# EAGLE library part DIR9001 (library audio)
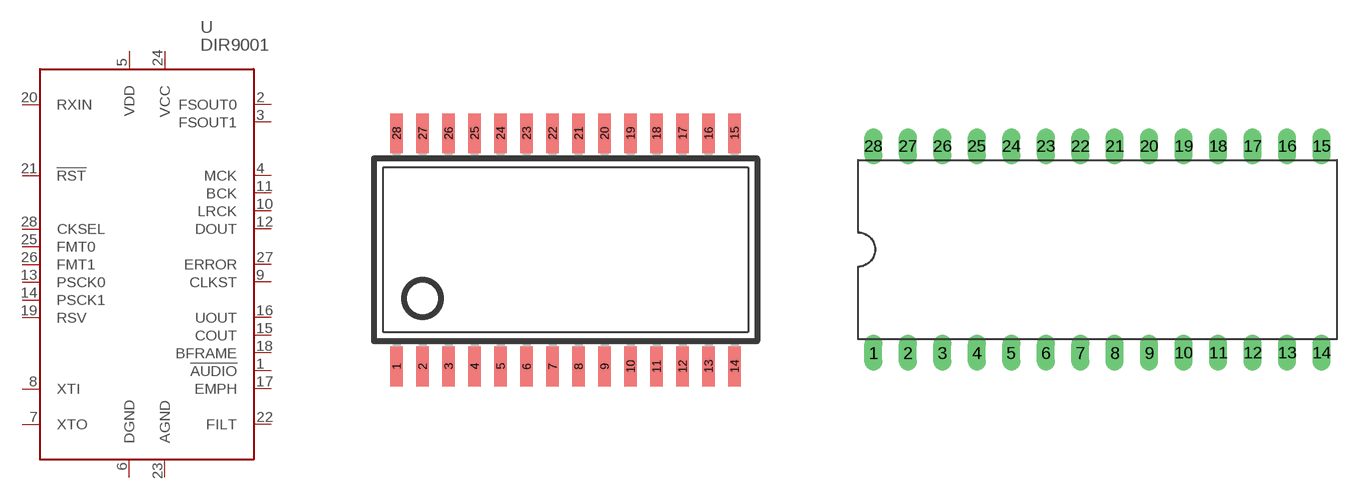
[diagram p0: symbol with the pads of TSSOP28; footprints TSSOP28, DIP28-6]

Designator prefix U

## DIR9001TSSOP  [TSSOP28]
1  !AUDIO
2  FSOUT0
3  FSOUT1
4  MCK
5  VDD  pwr
6  DGND  pwr
7  XTO  out
8  XTI  in
9  CLKST
10  LRCK
11  BCK
12  DOUT
13  PSCK0  in
14  PSCK1  in
15  COUT
16  UOUT
17  EMPH
18  BFRAME
19  RSV  in
20  RXIN  in
21  !RST  in
22  FILT
23  AGND  pwr
24  VCC  pwr
25  FMT0  in
26  FMT1  in
27  ERROR
28  CKSEL  in

## DIR9001DIP  [DIP28-6]
Pads as for TSSOP28

## Footprint TSSOP28 (pad centres in mm)
smd 0.305 x 0.991: 1 -4.225,-2.918; 2 -3.575,-2.918; 3 -2.925,-2.918; 4 -2.275,-2.918; 5 -1.625,-2.918; 6 -0.975,-2.918; 7 -0.325,-2.918; 8 0.325,-2.918; 9 0.975,-2.918; 10 1.625,-2.918; 11 2.275,-2.918; 12 2.925,-2.918; 13 3.575,-2.918; 14 4.225,-2.918; 15 4.225,2.918; 16 3.575,2.918; 17 2.925,2.918; 18 2.275,2.918; 19 1.625,2.918; 20 0.975,2.918; 21 0.325,2.918; 22 -0.325,2.918; 23 -0.975,2.918; 24 -1.625,2.918; 25 -2.275,2.918; 26 -2.925,2.918; 27 -3.575,2.918; 28 -4.225,2.918

## Footprint DIP28-6 (pad centres in mm)
drill 0.813 long: 1 -16.51,-7.62; 2 -13.97,-7.62; 3 -11.43,-7.62; 4 -8.89,-7.62; 5 -6.35,-7.62; 6 -3.81,-7.62; 7 -1.27,-7.62; 8 1.27,-7.62; 9 3.81,-7.62; 10 6.35,-7.62; 11 8.89,-7.62; 12 11.43,-7.62; 13 13.97,-7.62; 14 16.51,-7.62; 15 16.51,7.62; 16 13.97,7.62; 17 11.43,7.62; 18 8.89,7.62; 19 6.35,7.62; 20 3.81,7.62; 21 1.27,7.62; 22 -1.27,7.62; 23 -3.81,7.62; 24 -6.35,7.62; 25 -8.89,7.62; 26 -11.43,7.62; 27 -13.97,7.62; 28 -16.51,7.62